# Altium integrated library Fuse.IntLib: 1 symbol
Pins are listed as number, name and electrical type; pins without a type are passive.

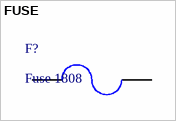
[diagram p0: symbol FUSE]

## FUSE
designator F?, comment Fuse 1808
FUSE BRD MNT 125VAC/VDC; ComponentLink1Description: Direnc.net; ComponentLink1URL: https://www.direnc.net/1a-smd-sigorta; ComponentLink2Description: Motorobit; ComponentLink2URL: https://www.motorobit.com/urun/1a-1808-kilif-smd-sigorta; ComponentLink3Description: Datasheet; ComponentLink3URL: https://www.littelfuse.com/~/media/electronics/datasheets/fuses/littelfuse_fuse_452_454_datasheet.pdf.pdf; ComponentLink4Description: Step; ComponentLink4URL: https://www.3dcontentcentral.com.tr/secure/download-model.aspx?catalogid=171&id=343808; ComponentLink5Description: Özdisan; ComponentLink5URL: https://www.ozdisan.com/devre-koruyucular/sigorta-bilesenleri/sigortalar/0454001-NR
footprint 1808 (Littelfuse Fuse  6.1mm x 2.69mmx 2.69mm)
pins: 1, 2